# Altium schematic symbol library Master.SchLib: 37 symbols
Pins are listed as number, name and electrical type; pins without a type are passive.

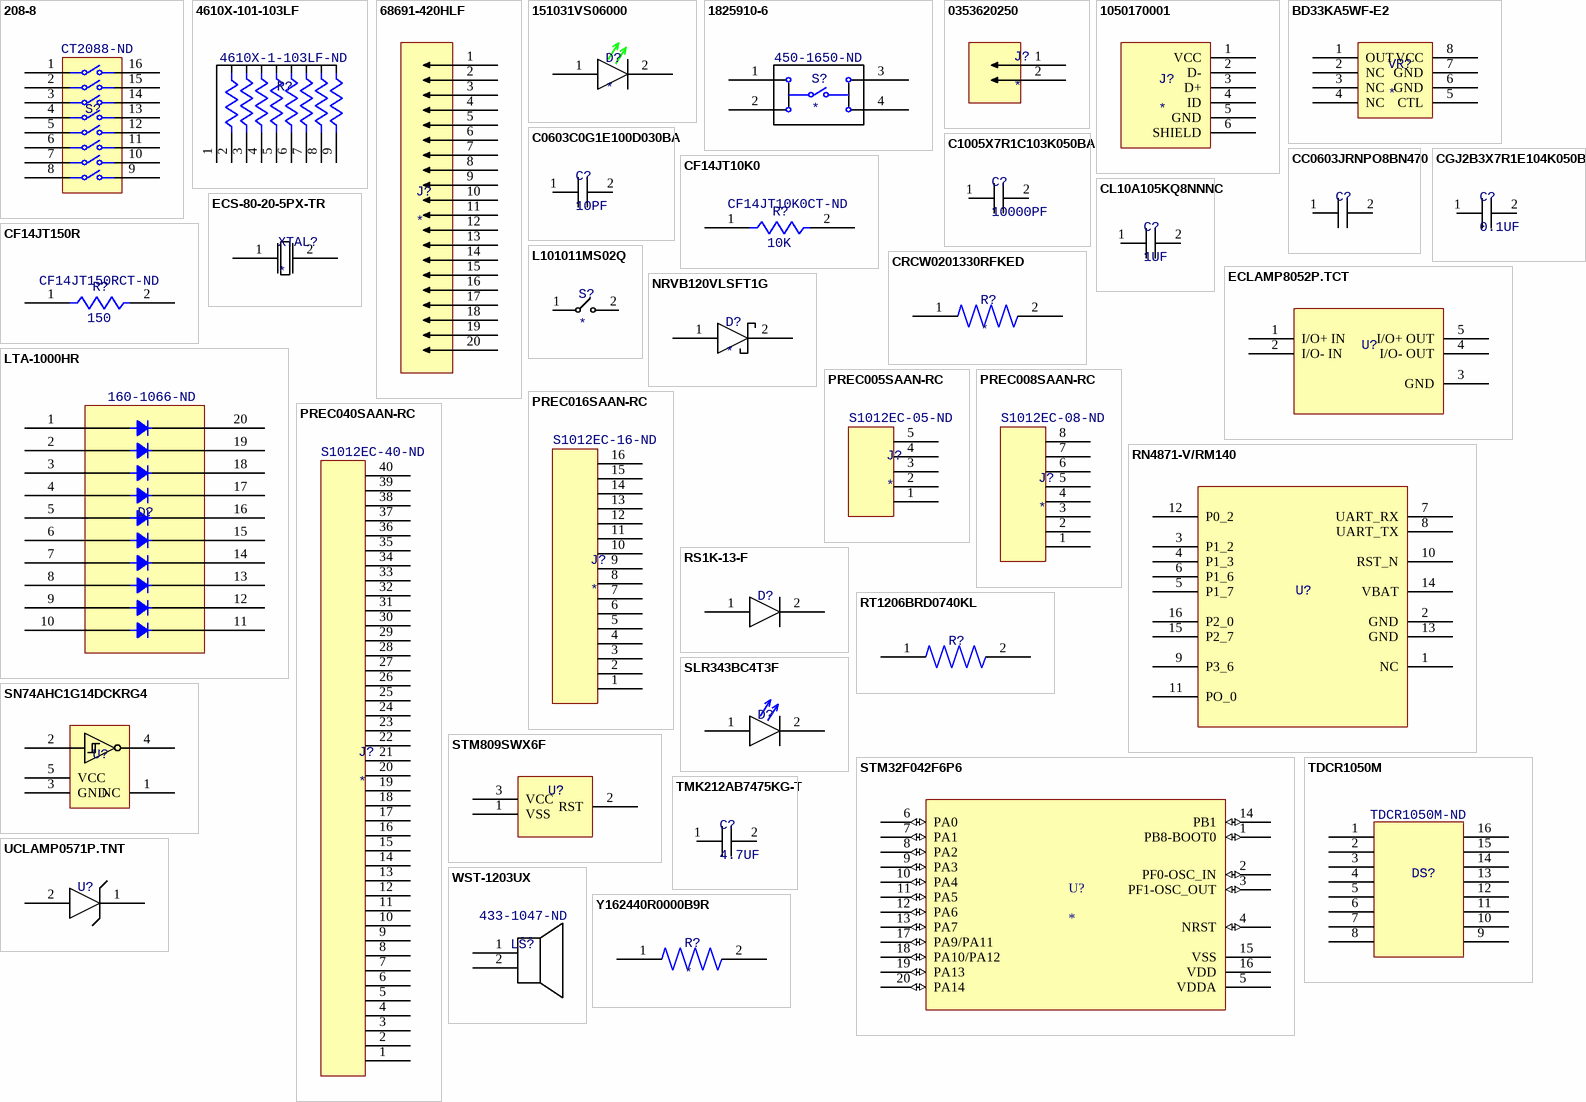
[diagram p0: symbols 208-8 to Y162440R0000B9R]

## 208-8
designator S?  Supplier Part Number 1: CT2088-ND
SWITCH SLIDE DIP SPST 50MA 24V; Manufacturer: CTS Electrocomponents; Voltage Rating: 24V DC; Actuator Type: Slide (Standard); Actuator Level: Raised; Pitch: 0.100"" (2.54mm), Full; Washable: No; Body Material: Plastic; Electrical Life: 2,000 Cycles; Number of Positions: 8; Supplier 1: Digi-Key; Circuit: SPST; Current Rating (Amps): 50mA; Contact Finish: Tin; Height Above Board: 0.334"" (8.48mm); Mounting Type: Through Hole; Termination Style: PC Pin; Operating Temperature: -55°C ~ 85°C; Length: 0.886"" (22.50mm)
footprint 208-8 (SWITCH SLIDE DIP SPST 50MA 24V)
pins: 1 "S1 PIN 1", 2 "S2 PIN 1", 3 "S3 PIN 1", 4 "S4 PIN 1", 5 "S5 PIN 1", 6 "S6 PIN 1", 7 "S7 PIN 1", 8 "S8 PIN 1", 9 "S8 PIN 2", 10 "S7 PIN 2", 11 "S6 PIN 2", 12 "S5 PIN 2", 13 "S4 PIN 2", 14 "S3 PIN 2", 15 "S2 PIN 2", 16 "S1 PIN 2"

## 4610X-101-103LF
designator R?  Supplier Part Number 1: 4610X-1-103LF-ND
RES ARRAY 9 RES 10K OHM 10SIP; Circuit Type: Bussed; Tolerance: ±2%; Number of Resistors: 9; Power Per Element: 200mW; Temperature Coefficient: ±100ppm/°C; Supplier 1: Digi-Key; Resistance (Ohms): 10k; Operating Temperature: -55°C ~ 125°C; Mounting Type: Through Hole; Package / Case: 10-SIP; Number of Pins: 10
footprint 4610X-101-103LF (RES ARRAY 9 RES 10K OHM 10SIP)
pins: 1 "PIN ONE", 2 "R1", 3 "R2", 4 "R3", 5 "R4", 6 "R5", 7 "R6", 8 "R7", 9 "R8"

## 68691-420HLF
designator J?
CONN HEADER VERT 20POS 2.54MM; Pitch - Mating: 0.100" (2.54mm); Number of Positions: 20; Number of Positions Loaded: All; Style: Board to Board; Shrouding: Unshrouded; Contact Length - Mating: 0.318" (8.08mm); Contact Length - Post: 0.120" (3.05mm); Overall Contact Length: 0.538" (13.67mm); Material Flammability Rating: UL94 V-0; Connector Type: Header; Contact Type: Male Pin; Number of Rows: 2; Row Spacing - Mating: 0.100" (2.54mm); Mounting Type: Through Hole; Termination: Solder; Fastening Type: Push-Pull; Insulation Height: 0.100" (2.54mm); Contact Shape: Square; Contact Finish - Mating: Tin; Contact Finish Thickness - Mating: 100.0µin (2.54µm); Contact Finish - Post: Tin; Contact Material: Phosphor Bronze; Insulation Color: Black; Supplier 1: Digi-Key; Supplier Part Number 1: 609-6378-ND
footprint 68691-420HLF (CONN HEADER VERT 20POS 2.54MM)
pins: 1 34, 2 35, 3 36, 4 37, 5 38, 6 39, 7 40, 8 41, 9 42, 10 43, 11 44, 12 45, 13 46, 14 47, 15 48, 16 49, 17 50, 18 51, 19 52, 20 53

## 151031VS06000
designator D?
LED GREEN DIFFUSED 3MM ROUND T/H; Configuration: Standard; Millicandela Rating: 30mcd; Lens Style: Round with Domed Top; Lens Size: 3.00mm Dia; Voltage - Forward (Vf) (Typ): 2.2V; Current - Test: 20mA; Viewing Angle: 60°; Wavelength - Dominant: 568nm; Wavelength - Peak: 560nm; Color: Green; Lens Color: Green; Lens Transparency: Diffused; Mounting Type: Through Hole; Package / Case: Radial; Supplier Device Package: 3mm Round; Height (Max): 5.55mm; Supplier 1: Digi-Key; Supplier Part Number 1: 732-5008-ND
footprint 151031VS06000
pins: 1 -, 2 +

## 1825910-6
designator S?  Supplier Part Number 1: 450-1650-ND
SWITCH TACTILE SPST-NO 0.05A 24V; Switch Function: Off-Mom; Contact Rating @ Voltage: 0.05A @ 24VDC; Actuator Type: Standard; Actuator Height off PCB, Vertical: 5.00mm; Actuator Orientation: Top Actuated; Illumination: Non-Illuminated; Operating Force: 160gf; Actuator Material: Polybutylene Terephthalate (PBT); Switch Travel: 0.25mm; Mechanical Life: 100,000 Cycles; Circuit: SPST-NO; Mounting Type: Through Hole; Termination Style: PC Pin; Supplier 1: Digi-Key; Operating Temperature: -35°C ~ 85°C
footprint 1825910-6 (SWITCH TACTILE SPST-NO 0.05A 24V)
pins: 1, 2, 3, 4

## 0353620250
designator J?
CONN HEADER VERT 2POS 2MM; Pitch - Mating: 0.079" (2.00mm); Number of Positions: 2; Number of Positions Loaded: All; Style: Board to Cable/Wire; Shrouding: Shrouded - 4 Wall; Contact Length - Mating: 0.145" (3.70mm); Contact Length - Post: 0.130" (3.30mm); Material Flammability Rating: UL94 V-0; Voltage Rating: 125V; Mated Stacking Heights: 8.5mm; Connector Type: Header; Contact Type: Male Pin; Number of Rows: 1; Mounting Type: Through Hole; Termination: Solder; Fastening Type: Locking Ramp; Insulation Height: 0.335" (8.51mm); Contact Shape: Square; Contact Finish - Mating: Tin; Contact Finish Thickness - Mating: 39.4µin (1.00µm); Contact Finish - Post: Tin; Contact Material: Brass; Insulation Material: Polyamide (PA), Nylon; Operating Temperature: -40°C ~ 105°C; Insulation Color: Natural; Contact Finish Thickness - Post: 39.4µin (1.00µm); Applications: Automotive, General Purpose; ComponentLink1Description: Datasheet; ComponentLink1URL: https://media.digikey.com/pdf/Data%20Sheets/Molex%20PDFs/PS-35507-003.pdf
footprint 0353620250 (CONN HEADER VERT 2POS 2MM)
pins: 1 34, 2 35

## 1050170001
designator J?
CONN RCPT USB2.0 MICRO B SMD R/A; Connector Type: USB - micro B; Number of Contacts: 5; Gender: Receptacle; Current Rating (Amps): 1A, 1.8A; Voltage - Rated: 30VAC; Mating Cycles: 10000; Shielding: Shielded; Material Flammability Rating: UL94 V-0; Number of Ports: 1; Specifications: USB 2.0; Mounting Type: Surface Mount, Right Angle; Through Hole; Mounting Feature: Horizontal; Termination: Solder; Features: Pick and Place, Solder Retention; Operating Temperature: -30°C ~ 85°C; Contact Finish: Gold; Shell/Shielding Material: Steel, Stainless; Insulation Color: Black; Supplier 1: Digi-Key; Supplier Part Number 1: WM1399CT-ND
footprint 1050170001 (CONN RCPT USB2.0 MICRO B SMD R/A)
pins: 1 VCC, 2 D-, 3 D+, 4 ID, 5 GND, 6 SHIELD

## BD33KA5WF-E2
designator VR?
IC REG LINEAR 3.3V 500MA 8SOP; Output Configuration: Positive; Output Type: Fixed; Voltage - Input (Max): 5.5V; Voltage Dropout (Max): 0.2V @ 200mA; PSRR: 50dB (120Hz); Control Features: Enable; Protection Features: Over Current, Over Temperature; Number of Regulators: 1; Current - Quiescent (Iq): 550 µA; Voltage - Output (Min/Fixed): 3.3V; Current - Output: 500mA; Operating Temperature: -40°C ~ 105°C; Mounting Type: Surface Mount; Package / Case: 8-SOIC (0.173", 4.40mm Width); Supplier Device Package: 8-SOP; Current - Supply (Max): 550 µA; Supplier 1: Digi-Key; Supplier Part Number 1: BD33KA5WF-E2CT-ND
footprint BD33KA5WF-E2 (IC REG LINEAR 3.3V 500MA 8SOP)
pins: 1 OUT, 2 NC, 3 NC, 4 NC, 5 CTL, 6 GND, 7 GND, 8 VCC

## C0603C0G1E100D030BA
designator C?, comment 10PF
CAP CER 10PF 25V C0G 0201; Tolerance: ±0.5pF; Temperature Coefficient: C0G, NP0; Voltage - Rated: 25V; Operating Temperature: -55°C ~ 125°C; Features: Low ESL; Applications: General Purpose; Mounting Type: Surface Mount, MLCC; Package / Case: 0201 (0603 Metric); Size / Dimension: 0.024" L x 0.012" W (0.60mm x 0.30mm); Thickness (Max): 0.013" (0.33mm); Capacitance: 10 pF; ComponentLink1Description: Datasheet; ComponentLink1URL: https://product.tdk.com/en/system/files?file=dam/doc/product/capacitor/ceramic/mlcc/catalog/mlcc_commercial_general_en.pdf; Supplier 1: Digi-Key; Supplier Part Number 1: 445-4651-1-ND
footprint C0603C0G1E100D030BA (CAP CER 10PF 25V C0G 0201)
pins: 1, 2

## C1005X7R1C103K050BA
designator C?, comment 10000PF
CAP CER 10000PF 16V X7R 0402; Tolerance: ±10%; Voltage - Rated: 16V; Temperature Coefficient: X7R; Operating Temperature: -55°C ~ 125°C; Features: Low ESL; Applications: General Purpose; Mounting Type: Surface Mount, MLCC; Package / Case: 0402 (1005 Metric); Size / Dimension: 0.039" L x 0.020" W (1.00mm x 0.50mm); Thickness (Max): 0.022" (0.55mm); Capacitance: 10000 pF; ComponentLink1Description: Datasheet; ComponentLink1URL: https://product.tdk.com/en/system/files?file=dam/doc/product/capacitor/ceramic/mlcc/catalog/mlcc_commercial_general_en.pdf; Supplier 1: Digi-Key; Supplier Part Number 1: 445-1262-1-ND
footprint C1005X7R1C103K050BA (CAP CER 10000PF 16V X7R 0402)
pins: 1, 2

## CC0603JRNPO8BN470
designator C?  (value not drawn)
CAP CER 47PF 25V NPO 0603; Tolerance: ±5%; Temperature Coefficient: C0G, NP0; Voltage - Rated: 25V; Operating Temperature: -55°C ~ 125°C; Applications: General Purpose; Mounting Type: Surface Mount, MLCC; Package / Case: 0603 (1608 Metric); Size / Dimension: 0.063" L x 0.031" W (1.60mm x 0.80mm); Thickness (Max): 0.035" (0.90mm); Capacitance: 47 pF; ComponentLink1Description: Datasheet; ComponentLink1URL: https://www.yageo.com/upload/media/product/productsearch/datasheet/mlcc/UPY-GP_NP0_16V-to-50V_18.pdf; Supplier 1: Digi-Key; Supplier Part Number 1: 311-3955-1-ND
footprint CC0603JRNPO8BN470 (CAP CER 47PF 25V NPO 0603)
pins: 1, 2

## CF14JT10K0
designator R?, comment Supplier Part Number 1: CF14JT10K0CT-ND  (hidden comment: 10K)
RES 10K OHM 1/4W 5% AXIAL; Manufacturer: Stackpole Electronics Inc; Power: 0.25W, 1/4W; Temperature Coefficient: 0/ -400ppm/°C; Tolerance: ±5%; Composition: Carbon Film; Operating Temperature: -55°C ~ 155°C; Package: Axial; Supplier 1: Digi-Key; Value: 10K
simulation model CF14JT150R (RES 150 OHM 1/4W 5% AXIAL)
signal-integrity model CF14JT150R (RES 150 OHM 1/4W 5% AXIAL)
footprint CF14JT10K0 (RES 10K OHM 1/4W 5% AXIAL)
pins: 1, 2

## CF14JT150R
designator R?, comment value 150  Supplier Part Number 1: CF14JT150RCT-ND  (hidden comment: 150R)
RES 150 OHM 1/4W 5% AXIAL; Manufacturer: Stackpole Electronics Inc; Power: 0.25W, 1/4W; Temperature Coefficient: 0/ -400ppm/°C; Tolerance: ±5%; Composition: Carbon Film; Operating Temperature: -55°C ~ 155°C; Package: Axial; Supplier 1: Digi-Key
simulation model CF14JT150R (RES 150 OHM 1/4W 5% AXIAL)
signal-integrity model CF14JT150R (RES 150 OHM 1/4W 5% AXIAL)
footprint CF14JT150R (RES 150 OHM 1/4W 5% AXIAL)
pins: 1, 2

## CGJ2B3X7R1E104K050BB
designator C?, comment 0.1UF
CAP CER 0.1UF 25V X7R 0402; Tolerance: ±10%; Capacitance: 0.1 µF; Voltage - Rated: 25V; Temperature Coefficient: X7R; Operating Temperature: -55°C ~ 125°C; Ratings: AEC-Q200; Applications: Automotive; Mounting Type: Surface Mount, MLCC; Package / Case: 0402 (1005 Metric); Size / Dimension: 0.039" L x 0.020" W (1.00mm x 0.50mm); Thickness (Max): 0.020" (0.50mm); Supplier 1: Digi-Key; Supplier Part Number 1: 445-13302-1-ND; ComponentLink1Description: Datasheet; ComponentLink1URL: https://product.tdk.com/en/system/files?file=dam/doc/product/capacitor/ceramic/mlcc/catalog/mlcc_highreliability_general_en.pdf
footprint CGJ2B3X7R1E104K050BB (CAP CER 0.1UF 25V X7R 0402)
pins: 1, 2

## CL10A105KQ8NNNC
designator C?, comment 1UF
CAP CER 1UF 6.3V X5R 0603; Tolerance: ±10%; Capacitance: 1 µF; Voltage - Rated: 6.3V; Temperature Coefficient: X5R; Operating Temperature: -55°C ~ 85°C; Applications: General Purpose; Mounting Type: Surface Mount, MLCC; Package / Case: 0603 (1608 Metric); Size / Dimension: 0.063" L x 0.031" W (1.60mm x 0.80mm); Thickness (Max): 0.035" (0.90mm); Supplier 1: Digi-Key; Supplier Part Number 1: 1276-1036-1-ND; ComponentLink1Description: Datasheet; ComponentLink1URL: https://www.samsungsem.com/resources/file/global/support/product_catalog/MLCC.pdf
footprint CL10A105KQ8NNNC (CAP CER 1UF 6.3V X5R 0603)
pins: 1, 2

## CRCW0201330RFKED
designator R?
RES SMD 330 OHM 1% 1/20W 0201; Power (Watts): 0.05W, 1/20W; Temperature Coefficient: ±100ppm/°C; Resistance: 330 Ohms; Tolerance: ±1%; Composition: Thick Film; Operating Temperature: -55°C ~ 155°C; Package / Case: 0201 (0603 Metric); Supplier Device Package: 0201; Size / Dimension: 0.024" L x 0.012" W (0.60mm x 0.30mm); Height - Seated (Max): 0.011" (0.28mm); Number of Terminations: 2; ComponentLink1Description: Datasheet; ComponentLink1URL: https://www.vishay.com/docs/20052/crcw0201e3.pdf
footprint CRCW0201330RFKED (RES SMD 330 OHM 1% 1/20W 0201)
pins: 1, 2

## ECLAMP8052P.TCT
designator U?  (value not drawn)
CMC 2LN SMD ESD AEC-Q100; Number of Lines: 2; DC Resistance (DCR) (Max): 1.8Ohm; Operating Temperature: -40°C ~ 125°C; Ratings: AEC-Q100; Features: ESD; Mounting Type: Surface Mount; Size / Dimension: 0.075" L x 0.067" W (1.90mm x 1.70mm); Height (Max): 0.024" (0.60mm); Package / Case: 5-UFDFN; ComponentLink1Description: Datasheet; ComponentLink1URL: https://semtech.my.salesforce.com/sfc/p/#E0000000JelG/a/44000000MClt/x4_O.M8f1_5l6CovuR7Nj9RxqDFB_sAgVeqN73g7pps; Supplier 1: Digi-Key; Supplier Part Number 1: ECLAMP8052P.TCTCT-ND
footprint ECLAMP8052P.TCT (CMC 2LN SMD ESD AEC-Q100)
pins: 1 I/O+ IN, 2 I/O- IN, 3 GND, 4 I/O- OUT, 5 I/O+ OUT

## ECS-80-20-5PX-TR
designator XTAL?
CRYSTAL 8.0000MHZ 20PF SMD; Frequency Stability: ±50ppm; Frequency Tolerance: ±30ppm; Operating Mode: Fundamental; Frequency: 8 MHz; ESR (Equivalent Series Resistance): 60 Ohms; Type: MHz Crystal; Load Capacitance: 20pF; Operating Temperature: -10°C ~ 70°C; Mounting Type: Surface Mount; Package / Case: HC-49/US; Size / Dimension: 0.449" L x 0.189" W (11.40mm x 4.80mm); Height - Seated (Max): 0.169" (4.30mm); ComponentLink1Description: Datasheet; ComponentLink1URL: https://ecsxtal.com/store/pdf/csm-7x.pdf
footprint ECS-80-20-5PX-TR (CRYSTAL 8.0000MHZ 20PF SMD)
pins: 1, 2

## L101011MS02Q
designator S?
SWITCH SLIDE SPST 4A 125V; Contact Timing: Not Specified; Switch Function: On-Off; Current Rating (Amps): 4A (AC/DC); Actuator Type: Standard; Actuator Length: 5.08mm; Actuator Material: Polyamide (PA66), Nylon 6/6; Switch Travel: 3.81mm; Electrical Life: 10,000 Cycles; Voltage Rating - DC: 28 V; Circuit: SPST; Contact Material: Copper; Contact Finish: Silver; Mounting Type: Through Hole; Termination Style: PC Pin; Operating Temperature: -30°C ~ 65°C; Voltage Rating - AC: 125 V; ComponentLink1Description: Datasheet; ComponentLink1URL: https://www.ckswitches.com/media/1423/l.pdf; Supplier 1: Digi-Key; Supplier Part Number 1: CKC5106-ND
footprint L101011MS02Q (SWITCH SLIDE SPST 4A 125V)
pins: 1, 2

## LTA-1000HR
designator D?  Supplier Part Number 1: 160-1066-ND
LED BAR GRAPH 10-SEGMENT RED; Manufacturer: Lite-On Inc.; Color: Red (x 10); Wavelength - Peak: 635nm; Configuration: Bar - 10 Wide, DIP; Current: 25mA; Millicandela Rating: 2mcd; Lens Type: Tinted; Lens Style: Round with Domed Top; Lens Size: 5mm, T-1 3/4; Voltage Rating: 2V; Mounting Type: Through Hole; Supplier 1: Digi-Key
footprint LTA-1000HR (LED BAR GRAPH 10-SEGMENT RED)
pins: 1 "ANODE A", 2 "ANODE B", 3 "ANODE C", 4 "ANODE D", 5 "ANODE E", 6 "ANODE F", 7 "ANODE G", 8 "ANODE H", 9 "ANODE J", 10 "ANODE K", 11 "CATHODE K", 12 "CATHODE J", 13 "CATHODE H", 14 "CATHODE G", 15 "CATHODE F", 16 "CATHODE E", 17 "CATHODE D", 18 "CATHODE C", 19 "CATHODE B", 20 "CATHODE A"

## NRVB120VLSFT1G
designator D?
DIODE SCHOTTKY 20V 1A SOD123; Speed: Fast Recovery =< 500ns, > 200mA (Io); Voltage - Forward (Vf) (Max) @ If: 300 mV @ 1 A; Current - Reverse Leakage @ Vr: 15 mA @ 20 V; Diode Type: Schottky; Current - Average Rectified (Io): 1A; Mounting Type: Surface Mount; Package / Case: SOD-123F; Supplier Device Package: SOD-123FL; Operating Temperature - Junction: -65°C ~ 125°C; Voltage - DC Reverse (Vr) (Max): 20 V; Supplier 1: Future Electronics; Supplier Part Number 1: 3116510
footprint SODFL360X98-2N (DIODE SCHOTTKY 20V 1A SOD123)
pins: 1 -, 2 +

## PREC005SAAN-RC
designator J?  Supplier Part Number 1: S1012EC-05-ND
CONN HEADER VERT 5POS 2.54MM; Connector Type: Header, Breakaway; Pitch - Mating: 0.100"" (2.54mm); Number of Positions: 5; Number of Positions Loaded: All; Style: Board to Board or Cable; Shrouding: Unshrouded; Contact Length - Mating: 0.230"" (5.84mm); Contact Length - Post: 0.120"" (3.05mm); Overall Contact Length: 0.448"" (11.39mm); Material Flammability Rating: UL94 V-0; Current Rating (Amps): 3A per Contact; Contact Type: Male Pin; Number of Rows: 1; Mounting Type: Through Hole; Termination: Solder; Fastening Type: Push-Pull; Insulation Height: 0.098"" (2.50mm); Contact Shape: Square; Contact Finish - Mating: Tin; Contact Finish - Post: Tin; Contact Material: Brass; Insulation Material: Polybutylene Terephthalate (PBT); Operating Temperature: -40°C ~ 105°C; Insulation Color: Black*; Supplier 1: Digi-Key
footprint PREC005SAAN-RC (CONN HEADER VERT 5POS 2.54MM)
pins: 1 "IO 1", 2 "IO 2", 3 "IO 3", 4 "IO 4", 5 "IO 5"

## PREC008SAAN-RC
designator J?  Supplier Part Number 1: S1012EC-08-ND
CONN HEADER VERT 8POS 2.54MM; Connector Type: Header, Breakaway; Pitch - Mating: 0.100"" (2.54mm); Number of Positions: 8; Number of Positions Loaded: All; Style: Board to Board or Cable; Shrouding: Unshrouded; Contact Length - Mating: 0.230"" (5.84mm); Contact Length - Post: 0.120"" (3.05mm); Overall Contact Length: 0.448"" (11.39mm); Material Flammability Rating: UL94 V-0; Current Rating (Amps): 3A per Contact; Contact Type: Male Pin; Number of Rows: 1; Mounting Type: Through Hole; Termination: Solder; Fastening Type: Push-Pull; Insulation Height: 0.098"" (2.50mm); Contact Shape: Square; Contact Finish - Mating: Tin; Contact Finish - Post: Tin; Contact Material: Brass; Insulation Material: Polybutylene Terephthalate (PBT); Operating Temperature: -40°C ~ 105°C; Insulation Color: Black*; Supplier 1: Digi-Key
footprint PREC008SAAN-RC (CONN HEADER VERT 8POS 2.54MM)
pins: 1 "IO 1", 2 "IO 2", 3 "IO 3", 4 "IO 4", 5 "IO 5", 6 "IO 6", 7 "IO 7", 8 "IO 8"

## PREC016SAAN-RC
designator J?  Supplier Part Number 1: S1012EC-16-ND
CONN HEADER VERT 16POS 2.54MM; Connector Type: Header, Breakaway; Pitch - Mating: 0.100"" (2.54mm); Number of Positions: 16; Number of Positions Loaded: All; Style: Board to Board or Cable; Shrouding: Unshrouded; Contact Length - Mating: 0.230"" (5.84mm); Contact Length - Post: 0.120"" (3.05mm); Overall Contact Length: 0.448"" (11.39mm); Material Flammability Rating: UL94 V-0; Current Rating (Amps): 3A per Contact; Contact Type: Male Pin; Number of Rows: 1; Mounting Type: Through Hole; Termination: Solder; Fastening Type: Push-Pull; Insulation Height: 0.098"" (2.50mm); Contact Shape: Square; Contact Finish - Mating: Tin; Contact Finish - Post: Tin; Contact Material: Brass; Insulation Material: Polybutylene Terephthalate (PBT); Operating Temperature: -40°C ~ 105°C; Insulation Color: Black*; Supplier 1: Digi-Key
footprint PREC016SAAN-RC (CONN HEADER VERT 16POS 2.54MM)
pins: 1 "IO 1", 2 "IO 2", 3 "IO 3", 4 "IO 4", 5 "IO 5", 6 "IO 6", 7 "IO 7", 8 "IO 8", 9 "IO 9", 10 "IO 10", 11 "IO 11", 12 "IO 12", 13 "IO 13", 14 "IO 14", 15 "IO 15", 16 "IO 16"

## PREC040SAAN-RC
designator J?  Supplier Part Number 1: S1012EC-40-ND
CONN HEADER VERT 40POS 2.54MM; Connector Type: Header, Breakaway; Pitch - Mating: 0.100"" (2.54mm); Number of Positions: 40; Number of Positions Loaded: All; Style: Board to Board or Cable; Shrouding: Unshrouded; Contact Length - Mating: 0.230"" (5.84mm); Contact Length - Post: 0.120"" (3.05mm); Overall Contact Length: 0.448"" (11.39mm); Material Flammability Rating: UL94 V-0; Current Rating (Amps): 3A per Contact; Contact Type: Male Pin; Number of Rows: 1; Mounting Type: Through Hole; Termination: Solder; Fastening Type: Push-Pull; Insulation Height: 0.098"" (2.50mm); Contact Shape: Square; Contact Finish - Mating: Tin; Contact Finish - Post: Tin; Contact Material: Brass; Insulation Material: Polybutylene Terephthalate (PBT); Operating Temperature: -40°C ~ 105°C; Insulation Color: Black*; Supplier 1: Digi-Key
footprint PREC040SAAN-RC (CONN HEADER VERT 40POS 2.54MM)
pins: 1 "IO 1", 2 "IO 2", 3 "IO 3", 4 "IO 4", 5 "IO 5", 6 "IO 6", 7 "IO 7", 8 "IO 8", 9 "IO 9", 10 "IO 10", 11 "IO 11", 12 "IO 12", 13 "IO 13", 14 "IO 14", 15 "IO 15", 16 "IO 16", 17 "IO 17", 18 "IO 18", 19 "IO 19", 20 "IO 20", 21 "IO 21", 22 "IO 22", 23 "IO 23", 24 "IO 24", 25 "IO 25", 26 "IO 26", 27 "IO 27", 28 "IO 28", 29 "IO 29", 30 "IO 30", 31 "IO 31", 32 "IO 32", 33 "IO 33", 34 "IO 34", 35 "IO 35", 36 "IO 36", 37 "IO 37", 38 "IO 38", 39 "IO 39", 40 "IO 40"

## RN4871-V/RM140
designator U?  (value not drawn)
RX TXRX MODULE BLE CHIP SMD; Utilized IC / Part: RN4871; RF Family/Standard: Bluetooth; Protocol: Bluetooth v5.0; Modulation: GFSK; Frequency: 2.402GHz ~ 2.48GHz; Data Rate: 10kbps; Power - Output: 0dBm; Sensitivity: -90dBm; Serial Interfaces: I²C, AIO, PIO, PWM, SPI, UART; Antenna Type: Integrated, Chip; Voltage - Supply: 1.9V ~ 3.6V; Current - Receiving: 13mA; Current - Transmitting: 13mA; Mounting Type: Surface Mount; Operating Temperature: -20°C ~ 70°C; Package / Case: 16-SMD Module; Supplier 1: Newark; Supplier Part Number 1: 39AH3381; ComponentLink1Description: Datasheet; ComponentLink1URL: https://ww1.microchip.com/downloads/en/DeviceDoc/RN4870-71-Data-Sheet-DS50002489E.pdf
footprint RN4871-V/RM140 (RX TXRX MODULE BLE CHIP SMD)
pins: 1 NC, 2 GND, 3 P1_2, 4 P1_3, 5 P1_7, 6 P1_6, 7 UART_RX, 8 UART_TX, 9 P3_6, 10 RST_N, 11 PO_0, 12 P0_2, 13 GND, 14 VBAT, 15 P2_7, 16 P2_0

## RS1K-13-F
designator D?  (value not drawn)
DIODE GEN PURP 800V 1A SMA; Diode Type: Standard; Speed: Fast Recovery =< 500ns, > 200mA (Io); Capacitance @ Vr, F: 15pF @ 4V, 1MHz; Reverse Recovery Time (trr): 500 ns; Voltage - Forward (Vf) (Max) @ If: 1.3 V @ 1 A; Current - Reverse Leakage @ Vr: 5 µA @ 800 V; Current - Average Rectified (Io): 1A; Mounting Type: Surface Mount; Package / Case: DO-214AC, SMA; Supplier Device Package: SMA; Operating Temperature - Junction: -65°C ~ 150°C; Voltage - DC Reverse (Vr) (Max): 800 V; ComponentLink1Description: Datasheet; ComponentLink1URL: https://www.diodes.com/assets/Datasheets/ds15002.pdf
footprint RS1K-13-F (DIODE GEN PURP 800V 1A SMA)
pins: 1 -, 2 +

## RT1206BRD0740KL
designator R?  (value not drawn)
RES SMD 40K OHM 0.1% 1/4W 1206; Power (Watts): 0.25W, 1/4W; Temperature Coefficient: ±25ppm/°C; Resistance: 40 kOhms; Tolerance: ±0.1%; Composition: Thin Film; Operating Temperature: -55°C ~ 155°C; Package / Case: 1206 (3216 Metric); Supplier Device Package: 1206; Size / Dimension: 0.122" L x 0.063" W (3.10mm x 1.60mm); Height - Seated (Max): 0.026" (0.65mm); Number of Terminations: 2; ComponentLink1Description: Datasheet; ComponentLink1URL: https://www.yageo.com/upload/media/product/productsearch/datasheet/rchip/PYu-RT_1-to-0.01_RoHS_L_12.pdf; Supplier 1: Digi-Key; Supplier Part Number 1: 13-RT1206BRD0740KLCT-ND
footprint RT1206BRD0740KL (RES SMD 40K OHM 0.1% 1/4W 1206)
pins: 1, 2

## SLR343BC4T3F
designator D?  (value not drawn)
LED BLUE CLEAR T-1 T/H; Configuration: Standard; Lens Color: Colorless; Millicandela Rating: 470mcd; Lens Style: Round with Domed Top; Lens Size: 3.10mm Dia; Voltage - Forward (Vf) (Typ): 3.2V; Current - Test: 20mA; Viewing Angle: 40°; Wavelength - Dominant: 470nm; Color: Blue; Lens Transparency: Clear; Mounting Type: Through Hole; Package / Case: Radial; Supplier Device Package: T-1; Height (Max): 5.60mm; Supplier 1: Digi-Key; Supplier Part Number 1: 846-1137-ND
footprint SLR343BC4T3F (LED BLUE CLEAR T-1 T/H)
pins: 1 -, 2 +

## SN74AHC1G14DCKRG4
designator U?  (value not drawn)
IC INVERT SCHMITT 1CH 1IN SC70; Logic Type: Inverter; Number of Inputs: 1; Voltage - Supply: 2V ~ 5.5V; Current - Output High, Low: 8mA, 8mA; Logic Level - Low: 0.9V ~ 1.65V; Logic Level - High: 2.2V ~ 3.85V; Max Propagation Delay @ V, Max CL: 10.6ns @ 5V, 50pF; Current - Quiescent (Max): 1 µA; Features: Schmitt Trigger; Operating Temperature: -40°C ~ 125°C; Mounting Type: Surface Mount; Supplier Device Package: SC-70-5; Package / Case: 5-TSSOP, SC-70-5, SOT-353; Number of Circuits: 1
footprint SN74AHC1G14DCKRG4 (IC INVERT SCHMITT 1CH 1IN SC70)
pins: 1 NC, 2, 3 GND, 4, 5 VCC

## STM32F042F6P6
designator U?
IC MCU 32BIT 32KB FLASH 20TSSOP; Core Processor: ARM® Cortex®-M0; Speed: 48MHz; Connectivity: CANbus, HDMI-CEC, I²C, IrDA, LINbus, SPI, UART/USART, USB; Peripherals: DMA, I²S, POR, PWM, WDT; Program Memory Size: 32KB (32K x 8); RAM Size: 6K x 8; Voltage - Supply (Vcc/Vdd): 1.65V ~ 3.6V; Data Converters: A/D 12x12b; Oscillator Type: Internal; Number of I/O: 16; Core Size: 32-Bit; Supplier Part Number 1: 42Y1015; Program Memory Type: FLASH; Operating Temperature: -40°C ~ 85°C (TA); Mounting Type: Surface Mount; Package / Case: 20-TSSOP (0.173", 4.40mm Width); Supplier Device Package: 20-TSSOP; Supplier 1: Newark; ComponentLink1Description: Datasheet; ComponentLink1URL: https://www.st.com/content/ccc/resource/technical/document/datasheet/52/ad/d0/80/e6/be/40/ad/DM00105814.pdf/files/DM00105814.pdf/jcr:content/translations/en.DM00105814.pdf
footprint STM32F042F6P6 (IC MCU 32BIT 32KB FLASH 20TSSOP)
pins: 1 PB8-BOOT0 (io), 2 PF0-OSC_IN (io), 3 PF1-OSC_OUT (io), 4 NRST (io), 5 VDDA (power), 6 PA0 (io), 7 PA1 (io), 8 PA2 (io), 9 PA3 (io), 10 PA4 (io), 11 PA5 (io), 12 PA6 (io), 13 PA7 (io), 14 PB1 (io), 15 VSS (power), 16 VDD (power), 17 PA9/PA11 (io), 18 PA10/PA12 (io), 19 PA13 (io), 20 PA14 (io)

## STM809SWX6F
designator U?  (value not drawn)
IC SUPERVISOR 1 CHANNEL SOT23-3; Voltage - Threshold: 2.93V; Output: Push-Pull, Totem Pole; Reset: Active Low; Reset Timeout: 140ms Minimum; Number of Voltages Monitored: 1; Type: Simple Reset/Power-On Reset; Operating Temperature: -40°C ~ 85°C (TA); Mounting Type: Surface Mount; Package / Case: TO-236-3, SC-59, SOT-23-3; Supplier Device Package: SOT-23-3; ComponentLink1Description: Datasheet; ComponentLink1URL: https://www.st.com/content/ccc/resource/technical/document/datasheet/cd/e2/ab/27/7d/5d/44/41/CD00003591.pdf/files/CD00003591.pdf/jcr:content/translations/en.CD00003591.pdf; Supplier 1: Digi-Key; Supplier Part Number 1: 497-3338-1-ND
footprint STM809SWX6F (IC SUPERVISOR 1 CHANNEL SOT23-3)
pins: 1 VSS, 2 RST, 3 VCC

## TDCR1050M
designator DS?  Supplier Part Number 1: TDCR1050M-ND
DISP 7SEG 0.39" QUAD RED 16DIP; Number of Characters: 4; Display Type: 7-Segment Clock; Common Pin: Common Anode; Voltage - Forward (Vf) (Typ): 2V; Current - Test: 20mA; Millicandela Rating: 6mcd; Wavelength - Peak: 631nm; Power Dissipation (Max): 60mW; Supplier 1: Digi-Key; Color: Red; Package / Case: 16-DIP
footprint TDCR1050M (DISP 7SEG 0.39" QUAD RED 16DIP)
pins: 1 "COMMON ANODE D1", 2 "COMMON ANODE D2", 3 "CATHODE D", 4 "ANODE L1, L2", 5 "CATHODE E", 6 "COMMON ANODE D3", 7 "CATHODE DP", 8 "COMMON ANODE D4", 9 "CATHODE L3", 10 "ANODE L3", 11 "CATHODE F", 12 "CATHODE L1, L2", 13 "CATHODE C", 14 "CATHODE A", 15 "CATHODE G", 16 "CATHODE B"

## TMK212AB7475KG-T
designator C?, comment 4.7UF
CAP CER 4.7UF 25V X7R 0805; Tolerance: ±10%; Capacitance: 4.7 µF; Voltage - Rated: 25V; Temperature Coefficient: X7R; Operating Temperature: -55°C ~ 125°C; Applications: SMPS Filtering; Mounting Type: Surface Mount, MLCC; Package / Case: 0805 (2012 Metric); Size / Dimension: 0.079" L x 0.049" W (2.00mm x 1.25mm); Thickness (Max): 0.053" (1.35mm); ComponentLink1Description: Datasheet; ComponentLink1URL: https://www.yuden.co.jp/productdata/catalog/mlcc06_e.pdf; Supplier 1: Digi-Key; Supplier Part Number 1: 587-2990-1-ND
footprint TMK212AB7475KG-T (CAP CER 4.7UF 25V X7R 0805)
pins: 1, 2

## UCLAMP0571P.TNT
designator U?  (value not drawn)
TVS DIODE 5V 15V SGP1610N2; Voltage - Reverse Standoff (Typ): 5V (Max); Voltage - Breakdown (Min): 6V; Current - Peak Pulse (10/1000µs): 80A; Power Line Protection: No; Capacitance @ Frequency: 675pF @ 1MHz; Unidirectional Channels: 1; Type: Zener; Voltage - Clamping (Max) @ Ipp: 15V; Applications: Automotive; Operating Temperature: -40°C ~ 125°C (TJ); Mounting Type: Surface Mount; Package / Case: 2-UDFN; Supplier Device Package: SGP1610N2; Supplier 1: Digi-Key; Supplier Part Number 1: UCLAMP0571P.TNTCT-ND; ComponentLink1Description: Datasheet; ComponentLink1URL: https://semtech.my.salesforce.com/sfc/p/#E0000000JelG/a/440000001MYJ/IUMjL3gSEdL0j_8aQaHuKPXW_0n5uJ8aCJSLGDAHDuk
footprint UCLAMP0571P.TNT (TVS DIODE 5V 15V SGP1610N2)
pins: 1, 2

## WST-1203UX
designator LS?  Supplier Part Number 1: 433-1047-ND
AUDIO MAGNETIC XDCR 2-5V TH; Manufacturer: Soberton Inc.; Driver Circuitry: Indicator, Internally Driven; Input Type: Zero-Peak Signal; Voltage Range: 2 ~ 4V; Frequency: 2.3kHz; Operating Mode: Single Tone; Sound Pressure Level (SPL): 82dB @ 3V, 10cm; Current - Supply: 30mA; Ratings: Washable; Voltage - Rated: 3V; Supplier 1: Digi-Key; Technology: Magnetic; Operating Temperature: -20°C ~ 60°C; Mounting Type: Through Hole; Termination: PC Pins
footprint WST-1203UX (AUDIO MAGNETIC XDCR 2-5V TH)
pins: 1 "CATHODE", 2 "ANODE"

## Y162440R0000B9R
designator R?
RES SMD 40 OHM 0.1% 1/5W 0805; Power (Watts): 0.2W, 1/5W; Temperature Coefficient: ±0.2ppm/°C; Resistance: 40 Ohms; Tolerance: ±0.1%; Composition: Metal Foil; Features: Moisture Resistant, Non-Inductive; Operating Temperature: -55°C ~ 150°C; Package / Case: 0805 (2012 Metric); Supplier Device Package: 0805; Size / Dimension: 0.080" L x 0.050" W (2.03mm x 1.27mm); Height - Seated (Max): 0.025" (0.64mm); Number of Terminations: 2; ComponentLink1Description: Datasheet; ComponentLink1URL: http://www.vishaypg.com/docs/63060/VSMP.pdf
footprint Y162440R0000B9R (RES SMD 40 OHM 0.1% 1/5W 0805)
pins: 1, 2